# Altium footprint library TCA9406DCUR.PcbLib: 2 footprints
Each footprint in its own frame and in the unit in brackets; x right, y up, seen from the top. Pads: shape width x height; smd on the part's side, far side on the other; paste and mask are expansions set on the pad; w line width, h text height; cw(c..) or ccw(c..) is an arc to the next point about the centre after c.
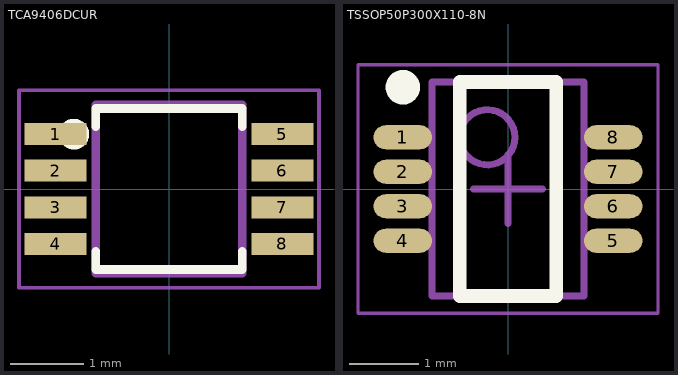
[diagram p0: the footprints below, top view; thin cyan lines are the x and y axes]

## TCA9406DCUR [mm]
pads (8):
  rect 0.85x0.3 smd paste+0 mask+0.05: 1(-1.55,0.75) 2(-1.55,0.25) 3(-1.55,-0.25) 4(-1.55,-0.75) 5(1.55,0.75) 6(1.55,0.25) 7(1.55,-0.25) 8(1.55,-0.75)
Top Overlay:
  lines w0.12: -1.15,0.75 cw(c-1.3,0.75) -1.151,0.765 ; -1,-0.85 -1,-1.1 1,-1.1 1,-0.85 ; -1,0.85 -1,1.1 1,1.1 1,0.85
  text ".Designator" at -1.999,1.903 h0.4
Mechanical 1:
  lines w0.05: -2.05,-1.35 2.05,-1.35 2.05,1.35 -2.05,1.35 -2.05,-1.35
Mechanical 13:
  lines w0.12: -1,-1.15 -1,1.15 1,1.15 1,-1.15 -1,-1.15

## TSSOP50P300X110-8N [mm] "TSSOP, 8-Leads, Body 3.00x2.10mm, Pitch 0.50mm, IPC Medium Density"
height 1.1
pads (8):
  oval 0.85x0.35 smd: 1(-1.525,0.75) 2(-1.525,0.25) 3(-1.525,-0.25) 4(-1.525,-0.75) 5(1.525,-0.75) 6(1.525,-0.25) 7(1.525,0.25) 8(1.525,0.75)
Top Overlay:
  circle w0.25: c-1.525,1.475 r0.125
  lines w0.2: -0.7,-1.55 -0.7,1.55 0.7,1.55 0.7,-1.55 -0.7,-1.55
Mechanical 13 (Mech13):
  circle w0.1: c-0.3,0.75 r0.4
  lines w0.1: -1.1,-1.55 -1.1,1.55 1.1,1.55 1.1,-1.55 -1.1,-1.55
Mechanical 15:
  lines w0.05: -2.175,-1.8 -2.175,1.8 2.175,1.8 2.175,-1.8 -2.175,-1.8
  lines w0.1: -0.5,0 0.5,0 ; 0,-0.5 0,0.5
3D body: height 1.1, standoff 0.05, extent -1.1,-1.55 1.1,1.55